# Altium footprint library 691 321 100 0xx.PcbLib: 6 footprints
Each footprint in its own frame and in the unit in brackets; x right, y up, seen from the top. Pads: shape width x height; smd on the part's side, far side on the other; paste and mask are expansions set on the pad; w line width, h text height; cw(c..) or ccw(c..) is an arc to the next point about the centre after c.
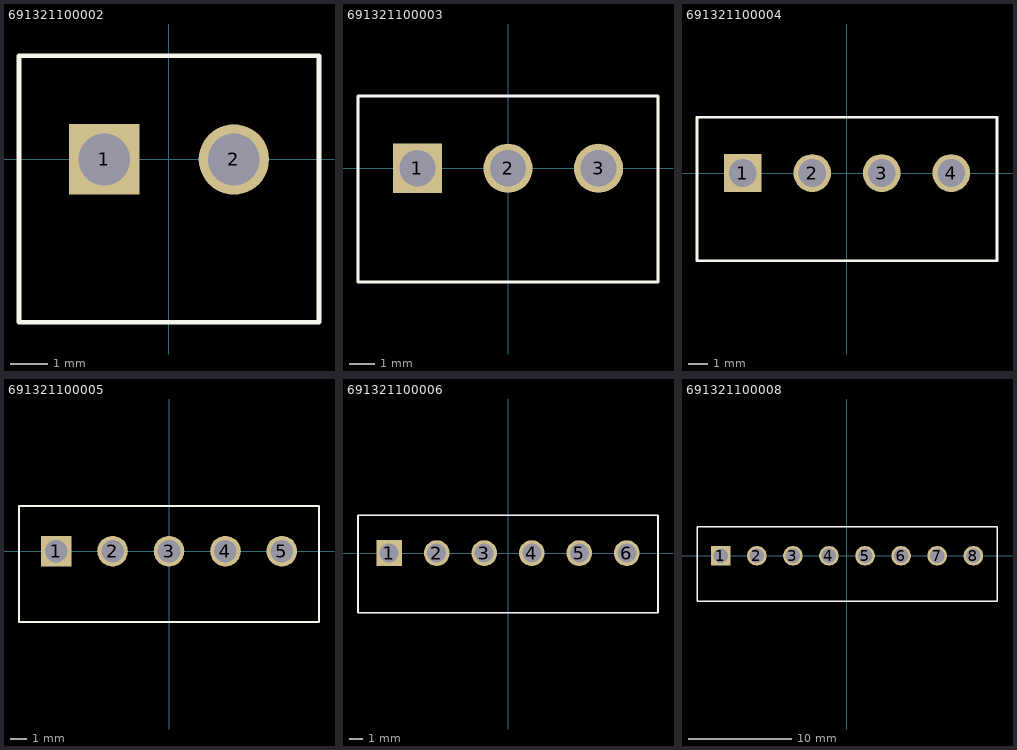
[diagram p0: the footprints below, top view; thin cyan lines are the x and y axes]

## 691321100002 [mm] "3,50mm - PCB Vertical - 02p"
height 9.2
pads (2):
  rect 1.9x1.9 hole 1.4: 1(-1.75,0)
  round 1.9 hole 1.4: 2(1.75,0)
Top Overlay:
  lines w0.127: -4.05,-4.4 4.05,-4.4 4.05,2.8 -4.05,2.8 -4.05,-4.4
3D body: height 9.21, standoff -3.49, extent -4.05,-4.4 4.05,2.8

## 691321100003 [mm] "3,50mm - PCB Vertical - 03p"
height 9.2
pads (3):
  rect 1.9x1.9 hole 1.4: 1(-3.5,0)
  round 1.9 hole 1.4: 2(0,0) 3(3.5,0)
Top Overlay:
  lines w0.127: -5.8,-4.4 -5.8,2.8 5.8,2.8 5.8,-4.4 -5.8,-4.4
3D body: height 9.21, standoff -3.49, extent -5.8,-4.4 5.8,2.8

## 691321100004 [mm] "3,50mm - PCB Vertical - 04p"
height 9.2
pads (4):
  rect 1.9x1.9 hole 1.4: 1(-5.25,0)
  round 1.9 hole 1.4: 2(-1.75,0) 3(1.75,0) 4(5.25,0)
Top Overlay:
  lines w0.127: -7.55,-4.4 7.55,-4.4 7.55,2.8 -7.55,2.8 -7.55,-4.4
3D body: height 9.21, standoff -3.49, extent -7.55,-4.4 7.55,2.8

## 691321100005 [mm] "3,50mm - PCB Vertical - 05p"
height 9.2
pads (5):
  rect 1.9x1.9 hole 1.4: 1(-7,0)
  round 1.9 hole 1.4: 2(-3.5,0) 3(0,0) 4(3.5,0) 5(7,0)
Top Overlay:
  lines w0.127: -9.3,-4.4 -9.3,2.8 9.3,2.8 9.3,-4.4 -9.3,-4.4
3D body: height 9.21, standoff -3.49, extent -9.3,-4.4 9.3,2.8

## 691321100006 [mm] "3,50mm - PCB Vertical - 06p"
height 9.2
pads (6):
  rect 1.9x1.9 hole 1.4: 1(-8.75,0)
  round 1.9 hole 1.4: 2(-5.25,0) 3(-1.75,0) 4(1.75,0) 5(5.25,0) 6(8.75,0)
Top Overlay:
  lines w0.127: -11.05,-4.4 -11.05,2.8 11.05,2.8 11.05,-4.4 -11.05,-4.4
3D body: height 9.21, standoff -3.49, extent -11.05,-4.4 11.05,2.8

## 691321100008 [mm] "3,50mm - PCB Vertical - 08p"
height 9.2
pads (8):
  rect 1.9x1.9 hole 1.4: 1(-12.25,0)
  round 1.9 hole 1.4: 2(-8.75,0) 3(-5.25,0) 4(-1.75,0) 5(1.75,0) 6(5.25,0) 7(8.75,0) 8(12.25,0)
Top Overlay:
  lines w0.127: -14.55,-4.4 -14.55,2.8 14.55,2.8 14.55,-4.4 -14.55,-4.4
3D body: height 9.21, standoff -3.49, extent -14.55,-4.4 14.55,2.8